# EAGLE library part MCP2562 (library MCP2562)
High-speed CAN Transceiver with Standby Mode CAN FD Ready
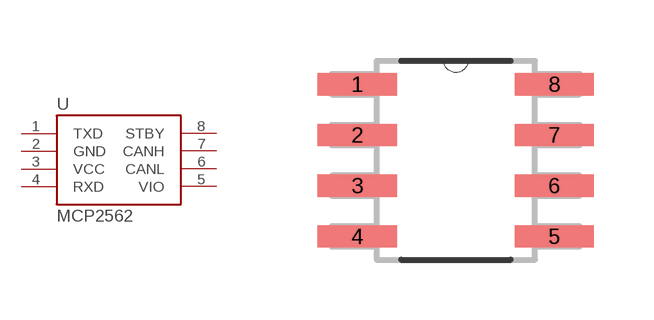
[diagram p0: symbol with the pads of SOIC127P600X175-8N; footprint SOIC127P600X175-8N]

Designator prefix U

## MCP2562 (DESCRIPTION: High-speed CAN Transceiver with Standby Mode CAN FD Ready; MF: Microchip; MP: MCP2562; PACKAGE: SOIC-8; PRICE: None; VALUE: MCP2562)  [SOIC127P600X175-8N]
1  TXD
2  GND  pwr
3  VCC  pwr
4  RXD
5  VIO  pwr
6  CANL
7  CANH
8  STBY

## Footprint SOIC127P600X175-8N (pad centres in mm)
smd 1.981 x 0.559: 1 -2.464,1.905; 2 -2.464,0.635; 3 -2.464,-0.635; 4 -2.464,-1.905; 5 2.464,-1.905; 6 2.464,-0.635; 7 2.464,0.635; 8 2.464,1.905